# Altium footprint library TPS62745.PcbLib: 1 footprints
Each footprint in its own frame and in the unit in brackets; x right, y up, seen from the top. Pads: shape width x height; smd on the part's side, far side on the other; paste and mask are expansions set on the pad; w line width, h text height; cw(c..) or ccw(c..) is an arc to the next point about the centre after c.
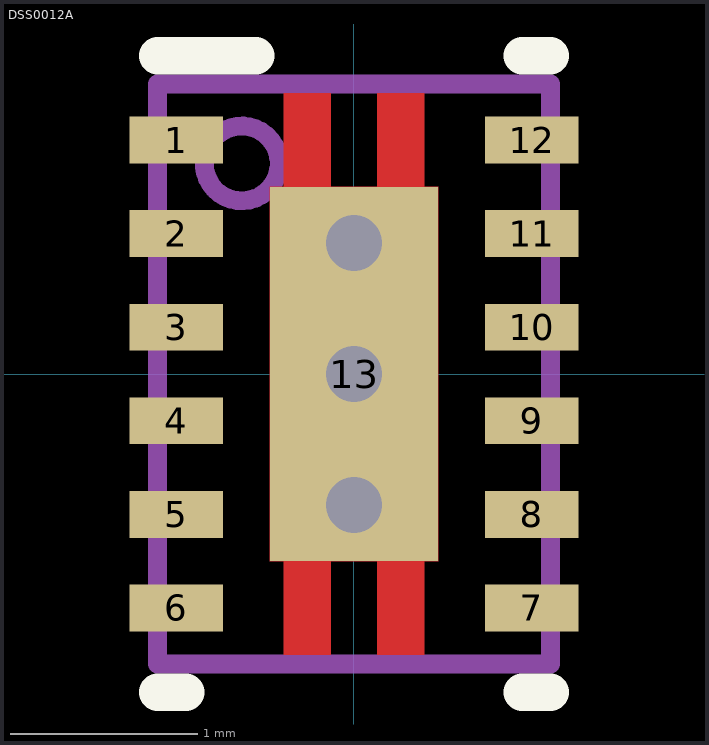
[diagram p0: the footprint, top view; thin cyan lines are the x and y axes]

## DSS0012A [mm]
pads (13):
  rect 0.5x0.25 smd paste+0 mask+0.051: 1(-0.95,1.25) 2(-0.95,0.75) 3(-0.95,0.25) 4(-0.95,-0.25) 5(-0.95,-0.75) 6(-0.95,-1.25) 7(0.95,-1.25) 8(0.95,-0.75) 9(0.95,-0.25) 10(0.95,0.25) 11(0.95,0.75) 12(0.95,1.25)
  rect 0.9x2 smd paste-0.45 mask+0.051: 13(0,0)
via 0,-0.7 diameter 0.6 hole 0.3
via 0,0 diameter 0.6 hole 0.3
via 0,0.7 diameter 0.6 hole 0.3
Top Layer:
  region: -0.125,-1.5 -0.375,-1.5 -0.375,-1 -0.45,-1 -0.45,1 -0.375,1 -0.375,1.5 -0.125,1.5 -0.125,1 0.125,1 0.125,1.5 0.375,1.5 0.375,1 0.45,1 0.45,-1 0.375,-1 0.375,-1.5 0.125,-1.5 0.125,-1 -0.125,-1
Top Overlay:
  lines w0.2: -1.05,-1.7 -0.9,-1.7 ; -1.05,1.7 -0.525,1.7 ; 0.9,-1.7 1.05,-1.7 ; 0.9,1.7 1.05,1.7
Top Paste:
  region: -0.427,0.895 -0.427,-0.894 0.427,-0.894 0.427,0.895
Top Solder:
  region: -0.125,-1.551 -0.375,-1.551 -0.385,-1.55 -0.394,-1.547 -0.403,-1.542 -0.411,-1.536 -0.417,-1.528 -0.422,-1.519 -0.425,-1.51 -0.426,-1.5 -0.426,-1.051 -0.45,-1.051 -0.46,-1.05 -0.469,-1.047 -0.478,-1.042 -0.486,-1.036 -0.492,-1.028 -0.497,-1.019 -0.5,-1.01 -0.501,-1 -0.501,1 -0.5,1.01 -0.497,1.019 -0.492,1.028 -0.486,1.036 -0.478,1.042 -0.469,1.047 -0.46,1.05 -0.45,1.051 -0.426,1.051 -0.426,1.5 -0.425,1.51 -0.422,1.519 -0.417,1.528 -0.411,1.536 -0.403,1.542 -0.394,1.547 -0.385,1.55 -0.375,1.551 -0.125,1.551 -0.115,1.55 -0.106,1.547 -0.097,1.542 -0.089,1.536 -0.083,1.528 -0.078,1.519 -0.075,1.51 -0.074,1.5 -0.074,1.051 0.074,1.051 0.074,1.5 0.075,1.51 0.078,1.519 0.083,1.528 0.089,1.536 0.097,1.542 0.106,1.547 0.115,1.55 0.125,1.551 0.375,1.551 0.385,1.55 0.394,1.547 0.403,1.542 0.411,1.536 0.417,1.528 0.422,1.519 0.425,1.51 0.426,1.5 0.426,1.051 0.45,1.051 0.46,1.05 0.469,1.047 0.478,1.042 0.486,1.036 0.492,1.028 0.497,1.019 0.5,1.01 0.501,1 0.501,-1 0.5,-1.01 0.497,-1.019 0.492,-1.028 0.486,-1.036 0.478,-1.042 0.469,-1.047 0.46,-1.05 0.45,-1.051 0.426,-1.051 0.426,-1.5 0.425,-1.51 0.422,-1.519 0.417,-1.528 0.411,-1.536 0.403,-1.542 0.394,-1.547 0.385,-1.55 0.375,-1.551 0.125,-1.551 0.115,-1.55 0.106,-1.547 0.097,-1.542 0.089,-1.536 0.083,-1.528 0.078,-1.519 0.075,-1.51 0.074,-1.5 0.074,-1.051 -0.074,-1.051 -0.074,-1.5 -0.075,-1.51 -0.078,-1.519 -0.083,-1.528 -0.089,-1.536 -0.097,-1.542 -0.106,-1.547 -0.115,-1.55
Mechanical 13:
  circle w0.1: c-0.6,1.125 r0.2
  lines w0.1: -1.05,-1.55 1.05,-1.55 1.05,1.55 -1.05,1.55 -1.05,-1.55
3D body "DSS0012A.stp": height 0.8, standoff 0, extent -1,-1.5 1,1.5